# EAGLE library part 25AA128 (library IC_Memory)
128K SPI Bus Serial EEPROM Datasheet <http://ww1.microchip.com/downloads/en/DeviceDoc/25AA128-25LC128-128K-SPI-Bus-Serial-EEPROM-20001831F.pdf>
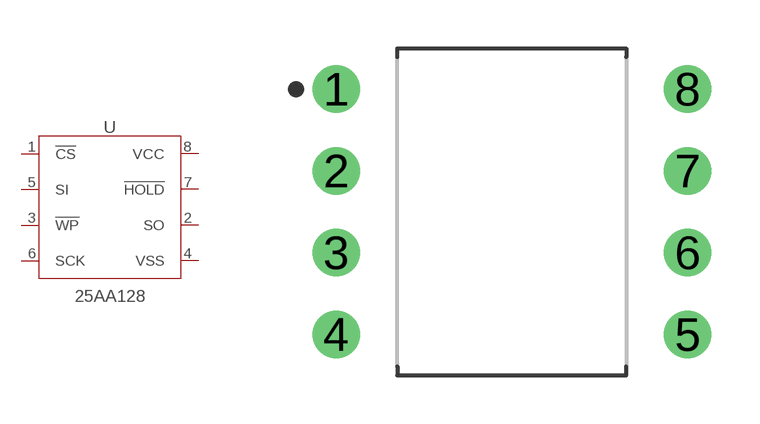
[diagram p4: symbol with the pads of DIP1092W55P254L949H533Q8B; footprint DIP1092W55P254L949H533Q8B]

Designator prefix -

## 25AA128-I/P (CATEGORY: IC_Memory; DESCRIPTION: IC EEPROM 128K SPI 10MHZ 8DIP; MANUFACTURER: Microchip Technology; MPN: 25AA128-I/P; OPERATING_TEMP: -40 to +85°C; PART_STATUS: Active; ROHS_COMPLIANT: RoHS3 Compliant; SUB_CATEGORY: EEPROM)  [DIP1092W55P254L949H533Q8B]
1  !CS  in
2  SO  out
3  !WP
4  VSS  pwr
5  SI  in
6  SCK  in
7  !HOLD  in
8  VCC  pwr

## Footprint DIP1092W55P254L949H533Q8B (pad centres in mm)
8-DIP, 2.54 mm (0.10 in) pitch, 10.92 mm (0.43 in) span, 9.50 X 6.60 X 5.33 mm body 8-pin DIP package with 2.54 mm (0.10 in) pitch, 10.92 mm (0.43 in) span with body size 9.50 X 6.60 X 5.33 mm
drill 0.876 pad 1.476: 1 -5.461,3.81; 2 -5.461,1.27; 3 -5.461,-1.27; 4 -5.461,-3.81; 5 5.461,-3.81; 6 5.461,-1.27; 7 5.461,1.27; 8 5.461,3.81